# Altium schematic symbol library SCH - MCU - RENESAS - RENESAS R7FS5D57XXXXXXLK 145LGA.SchLib: 1 symbol
Pins are listed as number, name and electrical type; pins without a type are passive.

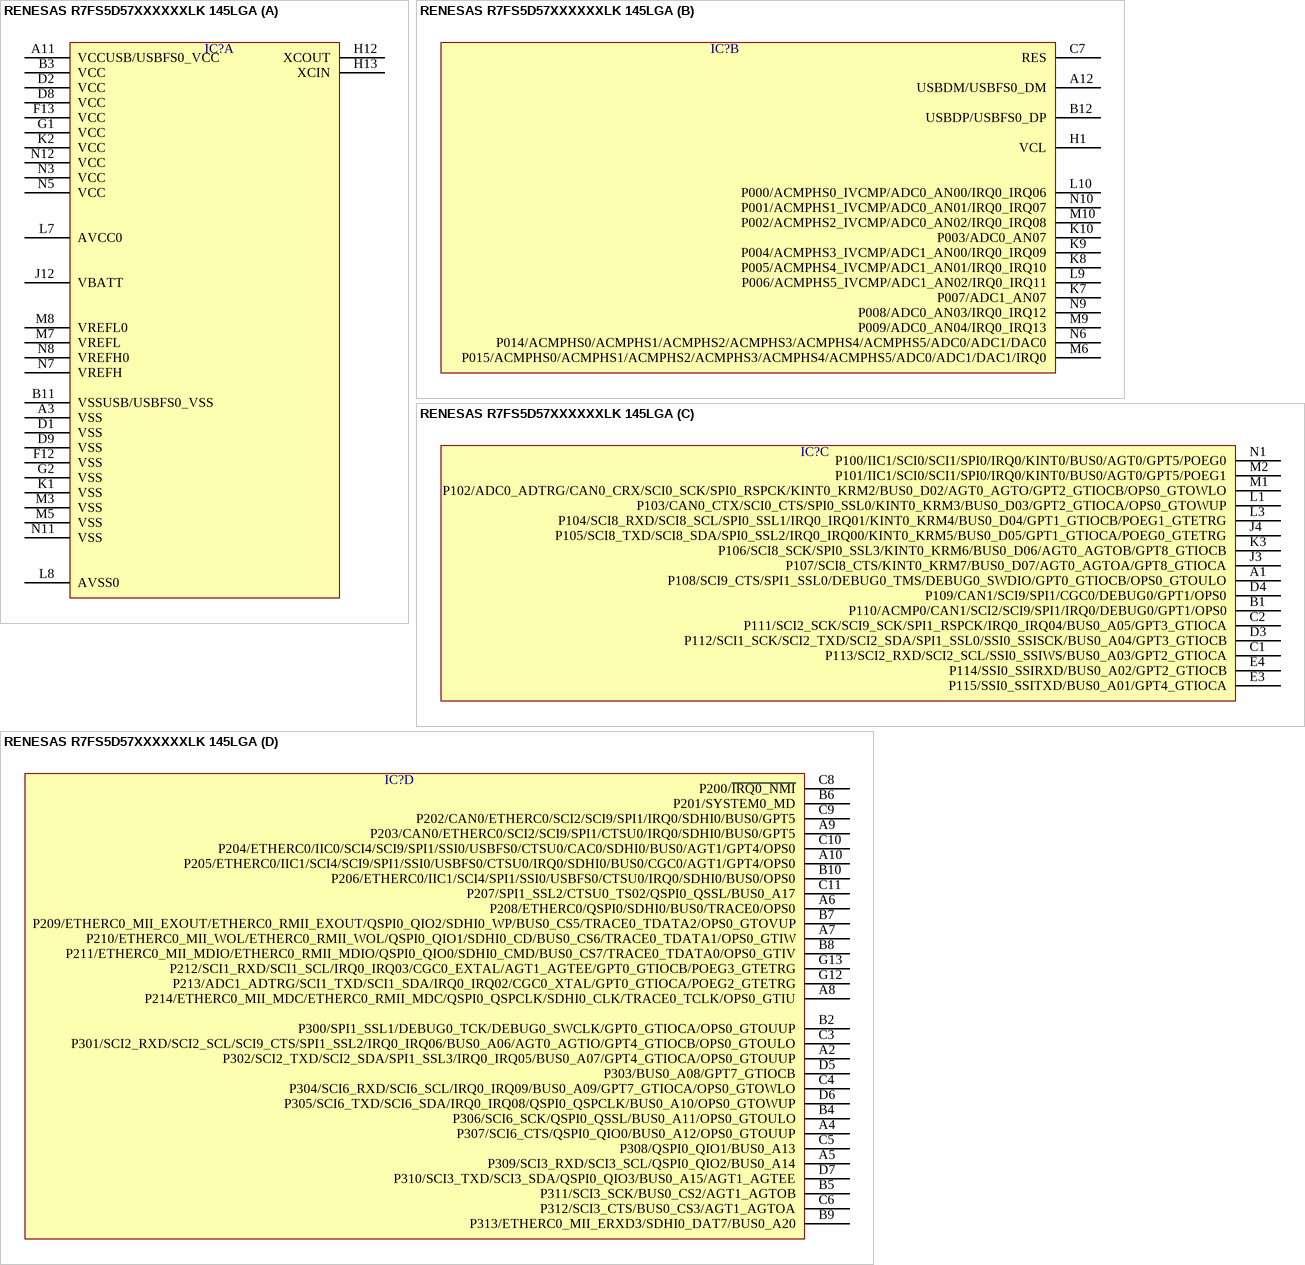
[diagram p0: symbol RENESAS R7FS5D57XXXXXXLK 145LGA]

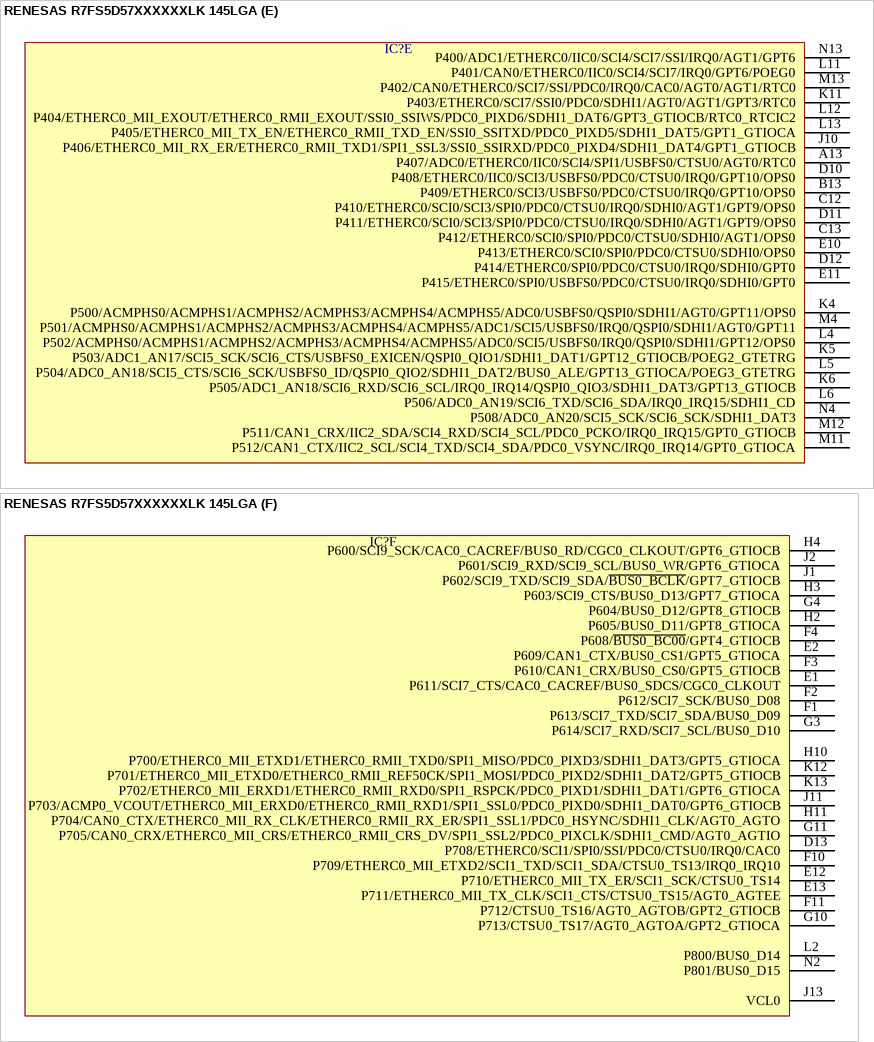
[diagram p1: symbol RENESAS R7FS5D57XXXXXXLK 145LGA]

## RENESAS R7FS5D57XXXXXXLK 145LGA
designator IC?  (value not drawn)
part A pins: A3 VSS, A11 VCCUSB/USBFS0_VCC, B3 VCC, B11 VSSUSB/USBFS0_VSS, D1 VSS, D2 VCC, D8 VCC, D9 VSS, F12 VSS, F13 VCC, G1 VCC, G2 VSS, H12 XCOUT, H13 XCIN, J12 VBATT, K1 VSS, K2 VCC, L7 AVCC0, L8 AVSS0, M3 VSS, M5 VSS, M7 VREFL, M8 VREFL0, N3 VCC, N5 VCC, N7 VREFH, N8 VREFH0, N11 VSS, N12 VCC
part B pins: A12 USBDM/USBFS0_DM, B12 USBDP/USBFS0_DP, C7 RES, H1 VCL, K7 P007/ADC1_AN07, K8 P005/ACMPHS4_IVCMP/ADC1_AN01/IRQ0_IRQ10, K9 P004/ACMPHS3_IVCMP/ADC1_AN00/IRQ0_IRQ09, K10 P003/ADC0_AN07, L9 P006/ACMPHS5_IVCMP/ADC1_AN02/IRQ0_IRQ11, L10 P000/ACMPHS0_IVCMP/ADC0_AN00/IRQ0_IRQ06, M6 P015/ACMPHS0/ACMPHS1/ACMPHS2/ACMPHS3/ACMPHS4/ACMPHS5/ADC0/ADC1/DAC1/IRQ0, M9 P009/ADC0_AN04/IRQ0_IRQ13, M10 P002/ACMPHS2_IVCMP/ADC0_AN02/IRQ0_IRQ08, N6 P014/ACMPHS0/ACMPHS1/ACMPHS2/ACMPHS3/ACMPHS4/ACMPHS5/ADC0/ADC1/DAC0, N9 P008/ADC0_AN03/IRQ0_IRQ12, N10 P001/ACMPHS1_IVCMP/ADC0_AN01/IRQ0_IRQ07
part C pins: A1 P108/SCI9_CTS/SPI1_SSL0/DEBUG0_TMS/DEBUG0_SWDIO/GPT0_GTIOCB/OPS0_GTOULO, B1 P110/ACMP0/CAN1/SCI2/SCI9/SPI1/IRQ0/DEBUG0/GPT1/OPS0, C1 P113/SCI2_RXD/SCI2_SCL/SSI0_SSIWS/BUS0_A03/GPT2_GTIOCA, C2 P111/SCI2_SCK/SCI9_SCK/SPI1_RSPCK/IRQ0_IRQ04/BUS0_A05/GPT3_GTIOCA, D3 P112/SCI1_SCK/SCI2_TXD/SCI2_SDA/SPI1_SSL0/SSI0_SSISCK/BUS0_A04/GPT3_GTIOCB, D4 P109/CAN1/SCI9/SPI1/CGC0/DEBUG0/GPT1/OPS0, E3 P115/SSI0_SSITXD/BUS0_A01/GPT4_GTIOCA, E4 P114/SSI0_SSIRXD/BUS0_A02/GPT2_GTIOCB, J3 P107/SCI8_CTS/KINT0_KRM7/BUS0_D07/AGT0_AGTOA/GPT8_GTIOCA, J4 P105/SCI8_TXD/SCI8_SDA/SPI0_SSL2/IRQ0_IRQ00/KINT0_KRM5/BUS0_D05/GPT1_GTIOCA/POEG0_GTETRG, K3 P106/SCI8_SCK/SPI0_SSL3/KINT0_KRM6/BUS0_D06/AGT0_AGTOB/GPT8_GTIOCB, L1 P103/CAN0_CTX/SCI0_CTS/SPI0_SSL0/KINT0_KRM3/BUS0_D03/GPT2_GTIOCA/OPS0_GTOWUP, L3 P104/SCI8_RXD/SCI8_SCL/SPI0_SSL1/IRQ0_IRQ01/KINT0_KRM4/BUS0_D04/GPT1_GTIOCB/POEG1_GTETRG, M1 P102/ADC0_ADTRG/CAN0_CRX/SCI0_SCK/SPI0_RSPCK/KINT0_KRM2/BUS0_D02/AGT0_AGTO/GPT2_GTIOCB/OPS0_GTOWLO, M2 P101/IIC1/SCI0/SCI1/SPI0/IRQ0/KINT0/BUS0/AGT0/GPT5/POEG1, N1 P100/IIC1/SCI0/SCI1/SPI0/IRQ0/KINT0/BUS0/AGT0/GPT5/POEG0
part D pins: A2 P302/SCI2_TXD/SCI2_SDA/SPI1_SSL3/IRQ0_IRQ05/BUS0_A07/GPT4_GTIOCA/OPS0_GTOUUP, A4 P307/SCI6_CTS/QSPI0_QIO0/BUS0_A12/OPS0_GTOUUP, A5 P309/SCI3_RXD/SCI3_SCL/QSPI0_QIO2/BUS0_A14, A6 P208/ETHERC0/QSPI0/SDHI0/BUS0/TRACE0/OPS0, A7 P210/ETHERC0_MII_WOL/ETHERC0_RMII_WOL/QSPI0_QIO1/SDHI0_CD/BUS0_CS6/TRACE0_TDATA1/OPS0_GTIW, A8 P214/ETHERC0_MII_MDC/ETHERC0_RMII_MDC/QSPI0_QSPCLK/SDHI0_CLK/TRACE0_TCLK/OPS0_GTIU, A9 P203/CAN0/ETHERC0/SCI2/SCI9/SPI1/CTSU0/IRQ0/SDHI0/BUS0/GPT5, A10 P205/ETHERC0/IIC1/SCI4/SCI9/SPI1/SSI0/USBFS0/CTSU0/IRQ0/SDHI0/BUS0/CGC0/AGT1/GPT4/OPS0, B2 P300/SPI1_SSL1/DEBUG0_TCK/DEBUG0_SWCLK/GPT0_GTIOCA/OPS0_GTOUUP, B4 P306/SCI6_SCK/QSPI0_QSSL/BUS0_A11/OPS0_GTOULO, B5 P311/SCI3_SCK/BUS0_CS2/AGT1_AGTOB, B6 P201/SYSTEM0_MD, B7 P209/ETHERC0_MII_EXOUT/ETHERC0_RMII_EXOUT/QSPI0_QIO2/SDHI0_WP/BUS0_CS5/TRACE0_TDATA2/OPS0_GTOVUP, B8 P211/ETHERC0_MII_MDIO/ETHERC0_RMII_MDIO/QSPI0_QIO0/SDHI0_CMD/BUS0_CS7/TRACE0_TDATA0/OPS0_GTIV, B9 P313/ETHERC0_MII_ERXD3/SDHI0_DAT7/BUS0_A20, B10 P206/ETHERC0/IIC1/SCI4/SPI1/SSI0/USBFS0/CTSU0/IRQ0/SDHI0/BUS0/OPS0, C3 P301/SCI2_RXD/SCI2_SCL/SCI9_CTS/SPI1_SSL2/IRQ0_IRQ06/BUS0_A06/AGT0_AGTIO/GPT4_GTIOCB/OPS0_GTOULO, C4 P304/SCI6_RXD/SCI6_SCL/IRQ0_IRQ09/BUS0_A09/GPT7_GTIOCA/OPS0_GTOWLO, C5 P308/QSPI0_QIO1/BUS0_A13, C6 P312/SCI3_CTS/BUS0_CS3/AGT1_AGTOA, C8 P200/~{IRQ0_NMI}, C9 P202/CAN0/ETHERC0/SCI2/SCI9/SPI1/IRQ0/SDHI0/BUS0/GPT5, C10 P204/ETHERC0/IIC0/SCI4/SCI9/SPI1/SSI0/USBFS0/CTSU0/CAC0/SDHI0/BUS0/AGT1/GPT4/OPS0, C11 P207/SPI1_SSL2/CTSU0_TS02/QSPI0_QSSL/BUS0_A17, D5 P303/BUS0_A08/GPT7_GTIOCB, D6 P305/SCI6_TXD/SCI6_SDA/IRQ0_IRQ08/QSPI0_QSPCLK/BUS0_A10/OPS0_GTOWUP, D7 P310/SCI3_TXD/SCI3_SDA/QSPI0_QIO3/BUS0_A15/AGT1_AGTEE, G12 P213/ADC1_ADTRG/SCI1_TXD/SCI1_SDA/IRQ0_IRQ02/CGC0_XTAL/GPT0_GTIOCA/POEG2_GTETRG, G13 P212/SCI1_RXD/SCI1_SCL/IRQ0_IRQ03/CGC0_EXTAL/AGT1_AGTEE/GPT0_GTIOCB/POEG3_GTETRG
part E pins: A13 P407/ADC0/ETHERC0/IIC0/SCI4/SPI1/USBFS0/CTSU0/AGT0/RTC0, B13 P409/ETHERC0/SCI3/USBFS0/PDC0/CTSU0/IRQ0/GPT10/OPS0, C12 P410/ETHERC0/SCI0/SCI3/SPI0/PDC0/CTSU0/IRQ0/SDHI0/AGT1/GPT9/OPS0, C13 P412/ETHERC0/SCI0/SPI0/PDC0/CTSU0/SDHI0/AGT1/OPS0, D10 P408/ETHERC0/IIC0/SCI3/USBFS0/PDC0/CTSU0/IRQ0/GPT10/OPS0, D11 P411/ETHERC0/SCI0/SCI3/SPI0/PDC0/CTSU0/IRQ0/SDHI0/AGT1/GPT9/OPS0, D12 P414/ETHERC0/SPI0/PDC0/CTSU0/IRQ0/SDHI0/GPT0, E10 P413/ETHERC0/SCI0/SPI0/PDC0/CTSU0/SDHI0/OPS0, E11 P415/ETHERC0/SPI0/USBFS0/PDC0/CTSU0/IRQ0/SDHI0/GPT0, J10 P406/ETHERC0_MII_RX_ER/ETHERC0_RMII_TXD1/SPI1_SSL3/SSI0_SSIRXD/PDC0_PIXD4/SDHI1_DAT4/GPT1_GTIOCB, K4 P500/ACMPHS0/ACMPHS1/ACMPHS2/ACMPHS3/ACMPHS4/ACMPHS5/ADC0/USBFS0/QSPI0/SDHI1/AGT0/GPT11/OPS0, K5 P503/ADC1_AN17/SCI5_SCK/SCI6_CTS/USBFS0_EXICEN/QSPI0_QIO1/SDHI1_DAT1/GPT12_GTIOCB/POEG2_GTETRG, K6 P505/ADC1_AN18/SCI6_RXD/SCI6_SCL/IRQ0_IRQ14/QSPI0_QIO3/SDHI1_DAT3/GPT13_GTIOCB, K11 P403/ETHERC0/SCI7/SSI0/PDC0/SDHI1/AGT0/AGT1/GPT3/RTC0, L4 P502/ACMPHS0/ACMPHS1/ACMPHS2/ACMPHS3/ACMPHS4/ACMPHS5/ADC0/SCI5/USBFS0/IRQ0/QSPI0/SDHI1/GPT12/OPS0, L5 P504/ADC0_AN18/SCI5_CTS/SCI6_SCK/USBFS0_ID/QSPI0_QIO2/SDHI1_DAT2/BUS0_ALE/GPT13_GTIOCA/POEG3_GTETRG, L6 P506/ADC0_AN19/SCI6_TXD/SCI6_SDA/IRQ0_IRQ15/SDHI1_CD, L11 P401/CAN0/ETHERC0/IIC0/SCI4/SCI7/IRQ0/GPT6/POEG0, L12 P404/ETHERC0_MII_EXOUT/ETHERC0_RMII_EXOUT/SSI0_SSIWS/PDC0_PIXD6/SDHI1_DAT6/GPT3_GTIOCB/RTC0_RTCIC2, L13 P405/ETHERC0_MII_TX_EN/ETHERC0_RMII_TXD_EN/SSI0_SSITXD/PDC0_PIXD5/SDHI1_DAT5/GPT1_GTIOCA, M4 P501/ACMPHS0/ACMPHS1/ACMPHS2/ACMPHS3/ACMPHS4/ACMPHS5/ADC1/SCI5/USBFS0/IRQ0/QSPI0/SDHI1/AGT0/GPT11, M11 P512/CAN1_CTX/IIC2_SCL/SCI4_TXD/SCI4_SDA/PDC0_VSYNC/IRQ0_IRQ14/GPT0_GTIOCA, M12 P511/CAN1_CRX/IIC2_SDA/SCI4_RXD/SCI4_SCL/PDC0_PCKO/IRQ0_IRQ15/GPT0_GTIOCB, M13 P402/CAN0/ETHERC0/SCI7/SSI/PDC0/IRQ0/CAC0/AGT0/AGT1/RTC0, N4 P508/ADC0_AN20/SCI5_SCK/SCI6_SCK/SDHI1_DAT3, N13 P400/ADC1/ETHERC0/IIC0/SCI4/SCI7/SSI/IRQ0/AGT1/GPT6
part F pins: D13 P708/ETHERC0/SCI1/SPI0/SSI/PDC0/CTSU0/IRQ0/CAC0, E1 P611/SCI7_CTS/CAC0_CACREF/BUS0_SDCS/CGC0_CLKOUT, E2 P609/CAN1_CTX/BUS0_CS1/GPT5_GTIOCA, E12 P710/ETHERC0_MII_TX_ER/SCI1_SCK/CTSU0_TS14, E13 P711/ETHERC0_MII_TX_CLK/SCI1_CTS/CTSU0_TS15/AGT0_AGTEE, F1 P613/SCI7_TXD/SCI7_SDA/BUS0_D09, F2 P612/SCI7_SCK/BUS0_D08, F3 P610/CAN1_CRX/BUS0_CS0/GPT5_GTIOCB, F4 P608/~{BUS0_BC00}/GPT4_GTIOCB, F10 P709/ETHERC0_MII_ETXD2/SCI1_TXD/SCI1_SDA/CTSU0_TS13/IRQ0_IRQ10, F11 P712/CTSU0_TS16/AGT0_AGTOB/GPT2_GTIOCB, G3 P614/SCI7_RXD/SCI7_SCL/BUS0_D10, G4 P604/BUS0_D12/GPT8_GTIOCB, G10 P713/CTSU0_TS17/AGT0_AGTOA/GPT2_GTIOCA, G11 P705/CAN0_CRX/ETHERC0_MII_CRS/ETHERC0_RMII_CRS_DV/SPI1_SSL2/PDC0_PIXCLK/SDHI1_CMD/AGT0_AGTIO, H2 P605/BUS0_D11/GPT8_GTIOCA, H3 P603/SCI9_CTS/BUS0_D13/GPT7_GTIOCA, H4 P600/SCI9_SCK/CAC0_CACREF/BUS0_RD/CGC0_CLKOUT/GPT6_GTIOCB, H10 P700/ETHERC0_MII_ETXD1/ETHERC0_RMII_TXD0/SPI1_MISO/PDC0_PIXD3/SDHI1_DAT3/GPT5_GTIOCA, H11 P704/CAN0_CTX/ETHERC0_MII_RX_CLK/ETHERC0_RMII_RX_ER/SPI1_SSL1/PDC0_HSYNC/SDHI1_CLK/AGT0_AGTO, J1 P602/SCI9_TXD/SCI9_SDA/~{BUS0_BCLK}/GPT7_GTIOCB, J2 P601/SCI9_RXD/SCI9_SCL/BUS0_WR/GPT6_GTIOCA, J11 P703/ACMP0_VCOUT/ETHERC0_MII_ERXD0/ETHERC0_RMII_RXD1/SPI1_SSL0/PDC0_PIXD0/SDHI1_DAT0/GPT6_GTIOCB, J13 VCL0, K12 P701/ETHERC0_MII_ETXD0/ETHERC0_RMII_REF50CK/SPI1_MOSI/PDC0_PIXD2/SDHI1_DAT2/GPT5_GTIOCB, K13 P702/ETHERC0_MII_ERXD1/ETHERC0_RMII_RXD0/SPI1_RSPCK/PDC0_PIXD1/SDHI1_DAT1/GPT6_GTIOCA, L2 P800/BUS0_D14, N2 P801/BUS0_D15